# EAGLE library part PINHEAD-6-VERTICAL (library PowerManagement)
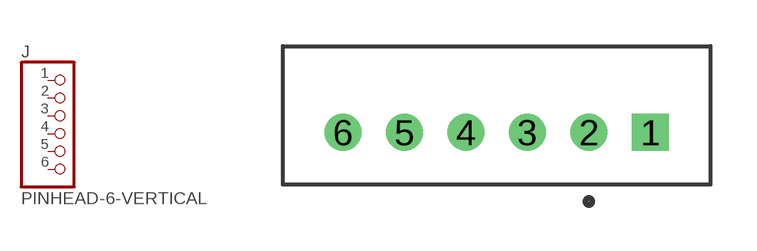
[diagram p3: symbol with the pads of JST_B6B-PH-K-S(LF)(SN); footprint JST_B6B-PH-K-S(LF)(SN)]

Designator prefix J

## PINHEAD-6-VERTICAL  [JST_B6B-PH-K-S(LF)(SN)]
1  1  pas
2  2  pas
3  3  pas
4  4  pas
5  5  pas
6  6  pas

## Footprint JST_B6B-PH-K-S(LF)(SN) (pad centres in mm)
drill 0.7 square: 1 5,-0.55
drill 0.7: 2 3,-0.55; 3 1,-0.55; 4 -1,-0.55; 5 -3,-0.55; 6 -5,-0.55